# EAGLE library part TXB0108DQSR (library TXB0108DQSR)
8-Bit Bidirectional Voltage-Level Shifter with Auto Direction Sensing and +/-15-kV ESD Protect Source: Datasheet <http://www.ti.com/lit/gpn/txb0108>
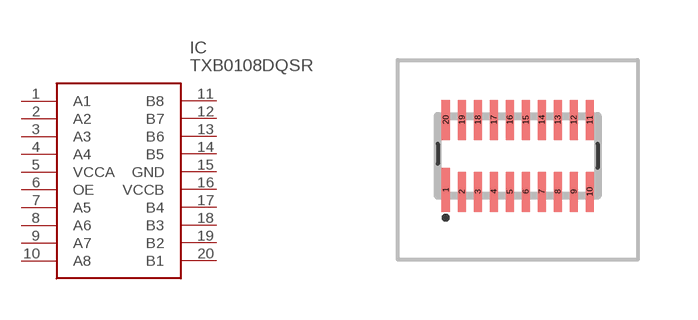
[diagram p0: symbol with the pads of TXB0108DQSR; footprint TXB0108DQSR]

Designator prefix IC

## TXB0108DQSR (Arrow_Part_Number: TXB0108DQSR; Arrow_Price-Stock: https://www.arrow.com/en/products/txb0108dqsr/texas-instruments; Description: 8-Bit Bidirectional Voltage-Level Shifter with Auto Direction Sensing and +/-15-kV ESD Protect; Height: 0mm; Manufacturer_Name: Texas Instruments; Manufacturer_Part_Number: TXB0108DQSR; Mouser_Part_Number: 595-TXB0108DQSR; Mouser_Price-Stock: https://www.mouser.co.uk/ProductDetail/Texas-Instruments/TXB0108DQSR?qs=EuM%2FBx4ov4SMZCOlCh%2FWxA%3D%3D)  [TXB0108DQSR]
1  A1
2  A2
3  A3
4  A4
5  VCCA
6  OE
7  A5
8  A6
9  A7
10  A8
11  B8
12  B7
13  B6
14  B5
15  GND
16  VCCB
17  B4
18  B3
19  B2
20  B1

## Footprint TXB0108DQSR (pad centres in mm)
DQS (R-PUSON-N20)
smd 0.2 x 1.1: 1 -1.8,-0.85
smd 0.2 x 1: 2 -1.4,-0.9; 3 -1,-0.9; 4 -0.6,-0.9; 5 -0.2,-0.9; 6 0.2,-0.9; 7 0.6,-0.9; 8 1,-0.9; 9 1.4,-0.9; 10 1.8,-0.9; 11 1.8,0.9; 12 1.4,0.9; 13 1,0.9; 14 0.6,0.9; 15 0.2,0.9; 16 -0.2,0.9; 17 -0.6,0.9; 18 -1,0.9; 19 -1.4,0.9; 20 -1.8,0.9